# EAGLE library part 71-12SP-3DS (library pswitch40)
Grayhill 71 Series, 12 Pos, 1 Pole, 3 Deck
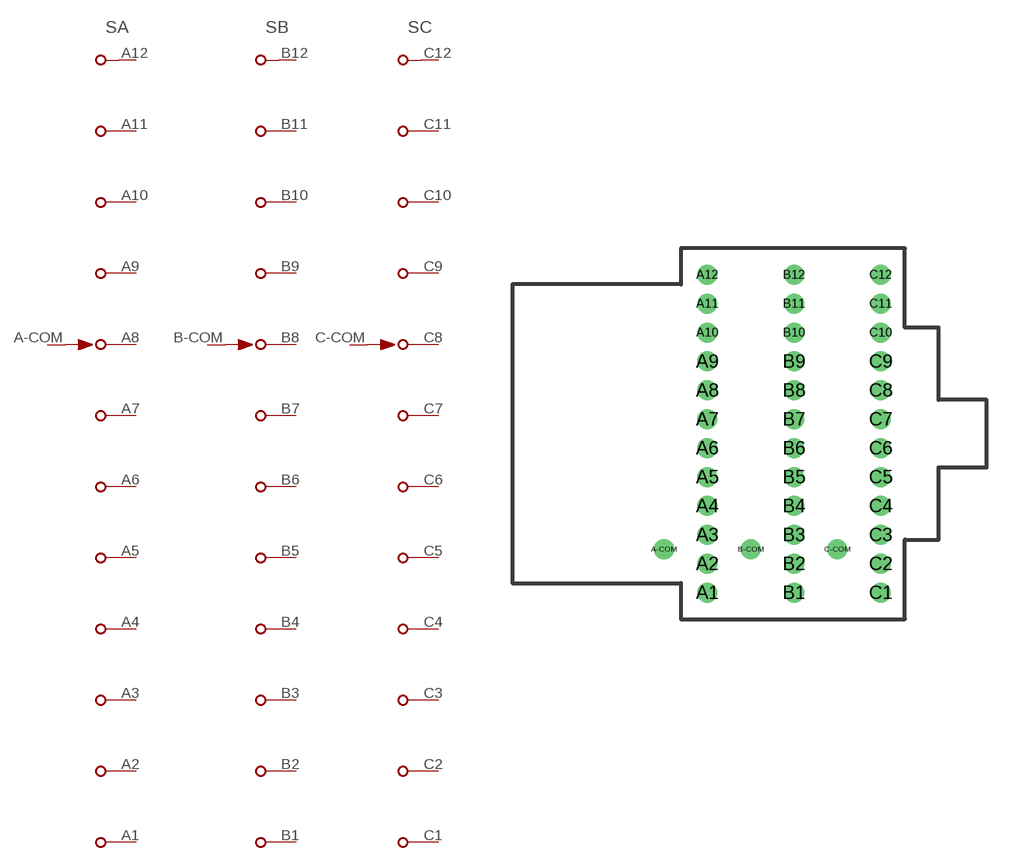
[diagram p5: symbol with the pads of 71-12-3D-3C; footprint 71-12-3D-3C]

Designator prefix S; gates A=71-12-PS B=71-12-PS C=71-12-PS

## 71-12SP-3DS  [71-12-3D-3C]
A1  A:1  pas
A2  A:2  pas
A3  A:3  pas
A4  A:4  pas
A5  A:5  pas
A6  A:6  pas
A7  A:7  pas
A8  A:8  pas
A9  A:9  pas
A10  A:10  pas
A11  A:11  pas
A12  A:12  pas
A-COM  A:COM  pas
B1  B:1  pas
B2  B:2  pas
B3  B:3  pas
B4  B:4  pas
B5  B:5  pas
B6  B:6  pas
B7  B:7  pas
B8  B:8  pas
B9  B:9  pas
B10  B:10  pas
B11  B:11  pas
B12  B:12  pas
B-COM  B:COM  pas
C1  C:1  pas
C2  C:2  pas
C3  C:3  pas
C4  C:4  pas
C5  C:5  pas
C6  C:6  pas
C7  C:7  pas
C8  C:8  pas
C9  C:9  pas
C10  C:10  pas
C11  C:11  pas
C12  C:12  pas
C-COM  C:COM  pas

## Footprint 71-12-3D-3C (pad centres in mm)
Grayhill 71 Series
drill 0.813 round: A1 5.715,-10.477; A2 5.715,-8.572; A3 5.715,-6.668; A4 5.715,-4.763; A5 5.715,-2.857; A6 5.715,-0.953; A7 5.715,0.953; A8 5.715,2.857; A9 5.715,4.763; A10 5.715,6.668; A11 5.715,8.572; A12 5.715,10.477; A-COM 2.857,-7.62; B1 11.43,-10.477; B2 11.43,-8.572; B3 11.43,-6.668; B4 11.43,-4.763; B5 11.43,-2.857; B6 11.43,-0.953; B7 11.43,0.953; B8 11.43,2.857; B9 11.43,4.763; B10 11.43,6.668; B11 11.43,8.572; B12 11.43,10.477; B-COM 8.573,-7.62; C1 17.145,-10.477; C2 17.145,-8.572; C3 17.145,-6.668; C4 17.145,-4.763; C5 17.145,-2.857; C6 17.145,-0.953; C7 17.145,0.953; C8 17.145,2.857; C9 17.145,4.763; C10 17.145,6.668; C11 17.145,8.572; C12 17.145,10.477; C-COM 14.288,-7.62